# EAGLE library part WT32-ETH01 (library WT32-ETH01)
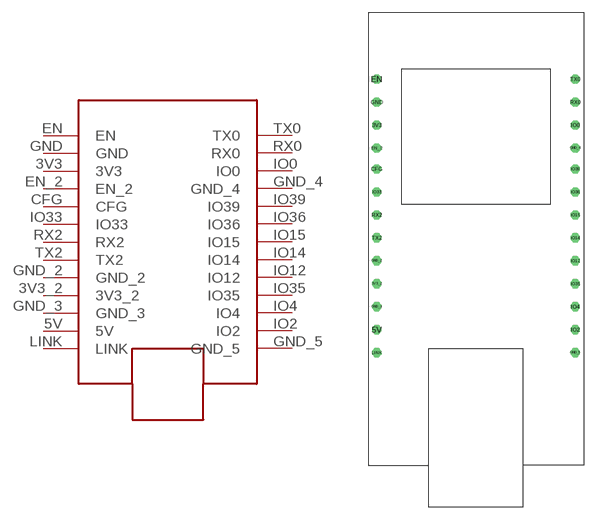
[diagram p0: symbol with the pads of WT32-ETH01; footprint WT32-ETH01]

Designator prefix WT32

## WT32-ETH01  [WT32-ETH01]
3V3  3V3
3V3_2  3V3_2
5V  5V
CFG  CFG
EN  EN
EN_2  EN_2
GND  GND
GND_2  GND_2
GND_3  GND_3
GND_4  GND_4
GND_5  GND_5
IO0  IO0
IO2  IO2
IO4  IO4
IO12  IO12
IO14  IO14
IO15  IO15
IO33  IO33
IO35  IO35
IO36  IO36
IO39  IO39
LINK  LINK
RX0  RX0
RX2  RX2
TX0  TX0
TX2  TX2

## Footprint WT32-ETH01 (pad centres in mm)
drill 0.6 octagon: 3V3 -11.43,12.446; 3V3_2 -11.43,-6.858; 5V -11.43,-12.446; CFG -11.43,7.112; EN -11.43,18.034; EN_2 -11.43,9.652; GND -11.43,15.24; GND_2 -11.43,-4.064; GND_3 -11.43,-9.652; GND_4 12.7,9.652; GND_5 12.7,-15.24; IO0 12.7,12.446; IO2 12.7,-12.446; IO4 12.7,-9.652; IO12 12.7,-4.064; IO14 12.7,-1.27; IO15 12.7,1.524; IO33 -11.43,4.318; IO35 12.7,-6.858; IO36 12.7,4.318; IO39 12.7,7.112; LINK -11.43,-15.24; RX0 12.7,15.24; RX2 -11.43,1.524; TX0 12.7,18.034; TX2 -11.43,-1.27